# Altium footprint library TransformersG.PcbLib: 3 footprints
Each footprint in its own frame and in the unit in brackets; x right, y up, seen from the top. Pads: shape width x height; smd on the part's side, far side on the other; paste and mask are expansions set on the pad; w line width, h text height; cw(c..) or ccw(c..) is an arc to the next point about the centre after c.
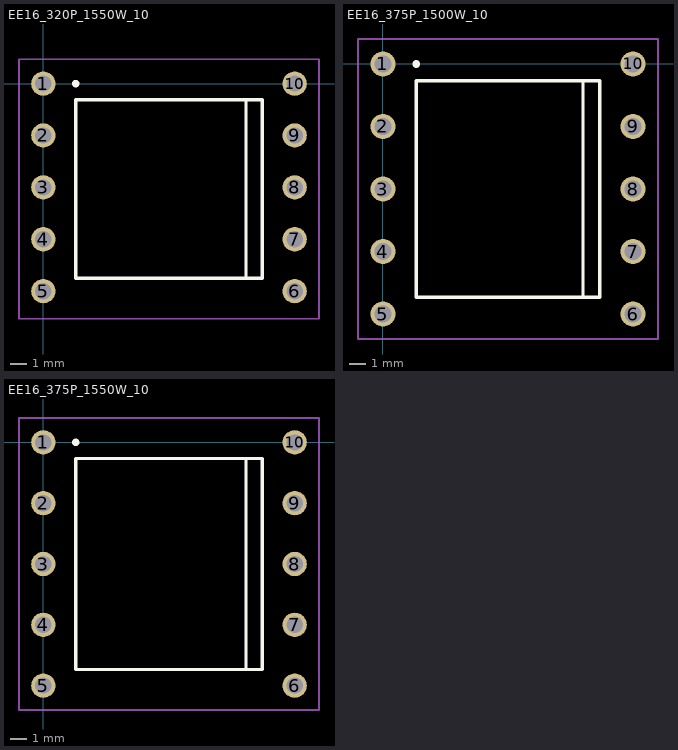
[diagram p0: the footprints below, top view; thin cyan lines are the x and y axes]

## EE16_320P_1550W_10 [mm] "Transformer bobbin, EE16 10 pins, 3.2mm pitch, 15.5mm spacing"
height 16
pads (10):
  round 1.5 hole 1: 1(0,0) 2(0,-3.2) 3(0,-6.4) 4(0,-9.6) 5(0,-12.8) 6(15.5,-12.8) 7(15.5,-9.6) 8(15.5,-6.4) 9(15.5,-3.2) 10(15.5,0)
Top Overlay:
  circle w0.254: c2,0 r0.1
  lines w0.2: 12.5,-12 12.5,-1 ; 2,-12 2,-1 13.5,-1 13.5,-12 2,-12
Mechanical 15:
  lines w0.1: -1.5,-14.5 17,-14.5 17,1.5 -1.5,1.5 -1.5,-14.5

## EE16_375P_1500W_10 [mm] "Transformer bobbin, EE16 10 pins, 3.75mm pitch, 15mm spacing"
height 16
pads (10):
  round 1.5 hole 1: 1(0,0) 2(0,-3.75) 3(0,-7.5) 4(0,-11.25) 5(0,-15) 6(15,-15) 7(15,-11.25) 8(15,-7.5) 9(15,-3.75) 10(15,0)
Top Overlay:
  circle w0.254: c2,0 r0.1
  lines w0.2: 12,-14 12,-1 ; 2,-14 13,-14 13,-1 2,-1 2,-14
Mechanical 15:
  lines w0.1: -1.5,-16.5 16.5,-16.5 16.5,1.5 -1.5,1.5 -1.5,-16.5

## EE16_375P_1550W_10 [mm] "Transformer bobbin, EE16 10 pins, 3.75mm pitch, 15.5mm spacing"
height 16
pads (10):
  round 1.5 hole 1: 1(0,0) 2(0,-3.75) 3(0,-7.5) 4(0,-11.25) 5(0,-15) 6(15.5,-15) 7(15.5,-11.25) 8(15.5,-7.5) 9(15.5,-3.75) 10(15.5,0)
Top Overlay:
  circle w0.254: c2,0 r0.1
  lines w0.2: 12.5,-14 12.5,-1 ; 2,-14 13.5,-14 13.5,-1 2,-1 2,-14
Mechanical 15:
  lines w0.1: -1.5,-16.5 -1.5,1.5 17,1.5 17,-16.5 -1.5,-16.5